# Altium schematic symbol library Transistor.SchLib: 10 symbols
Pins are listed as number, name and electrical type; pins without a type are passive.

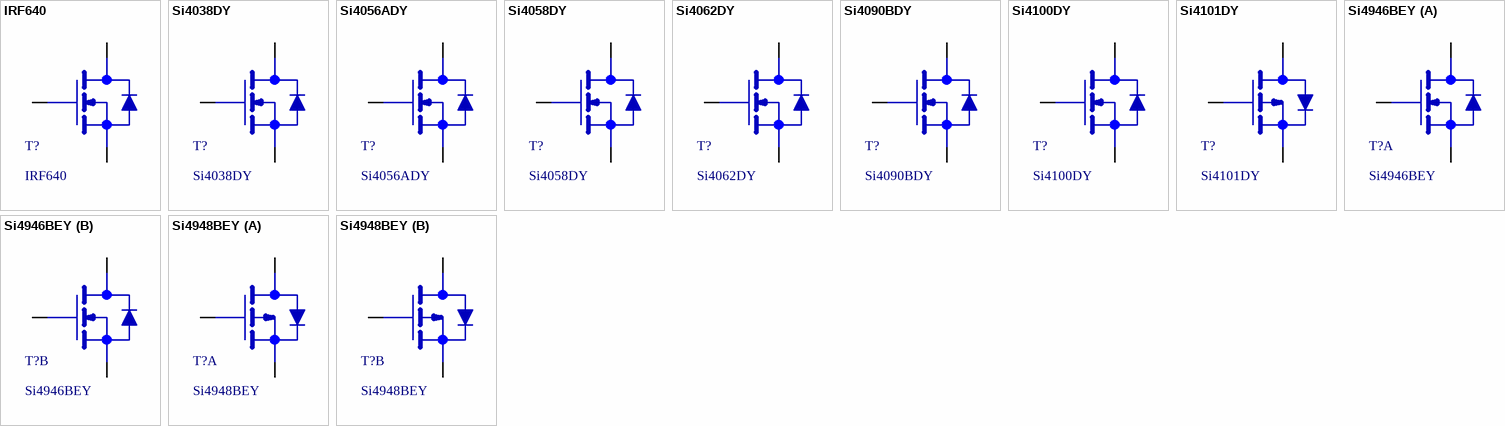
[diagram p0: symbols IRF640 to Si4948BEY]

## IRF640
designator T?
Power MOSFET
footprint TO220
pins: D, G, S

## Si4038DY
designator T?
N-Channel 40 V (D-S) MOSFET
footprint SOIC8 Si40xx
pins: D, G, S

## Si4056ADY
designator T?
N-Channel 100 V (D-S) MOSFET
footprint SOIC8 Si40xx
pins: D, G, S

## Si4058DY
designator T?
N-Channel 100 V (D-S) MOSFET
footprint SOIC8 Si40xx
pins: D, G, S

## Si4062DY
designator T?
N-Channel 60 V (D-S) MOSFET
footprint SOIC8 Si40xx
pins: D, G, S

## Si4090BDY
designator T?
N-Channel 100 V (D-S) MOSFET
footprint SOIC8 Si40xx
pins: D, G, S

## Si4100DY
designator T?
N-Channel 100-V (D-S) MOSFET
footprint SOIC8 Si40xx
pins: D, G, S

## Si4101DY
designator T?
P-Channel 30 V (D-S) MOSFET
footprint SOIC8 Si40xx
pins: D, G, S

## Si4946BEY
designator T?
Dual N-Channel 60-V (D-S) 175 °C MOSFET
footprint SOIC8 Si494xBEY
part A pins: D1, G1, S1
part B pins: D2, G2, S2

## Si4948BEY
designator T?
Dual P-Channel 60-V (D-S) 175 °C MOSFET
footprint SOIC8 Si494xBEY
part A pins: D1, G1, S1
part B pins: D2, G2, S2